# Altium footprint library HGH.PcbLib: 336 footprints (part 21 of 21)
Each footprint in its own frame and in the unit in brackets; x right, y up, seen from the top. Pads: shape width x height; smd on the part's side, far side on the other; paste and mask are expansions set on the pad; w line width, h text height; cw(c..) or ccw(c..) is an arc to the next point about the centre after c.
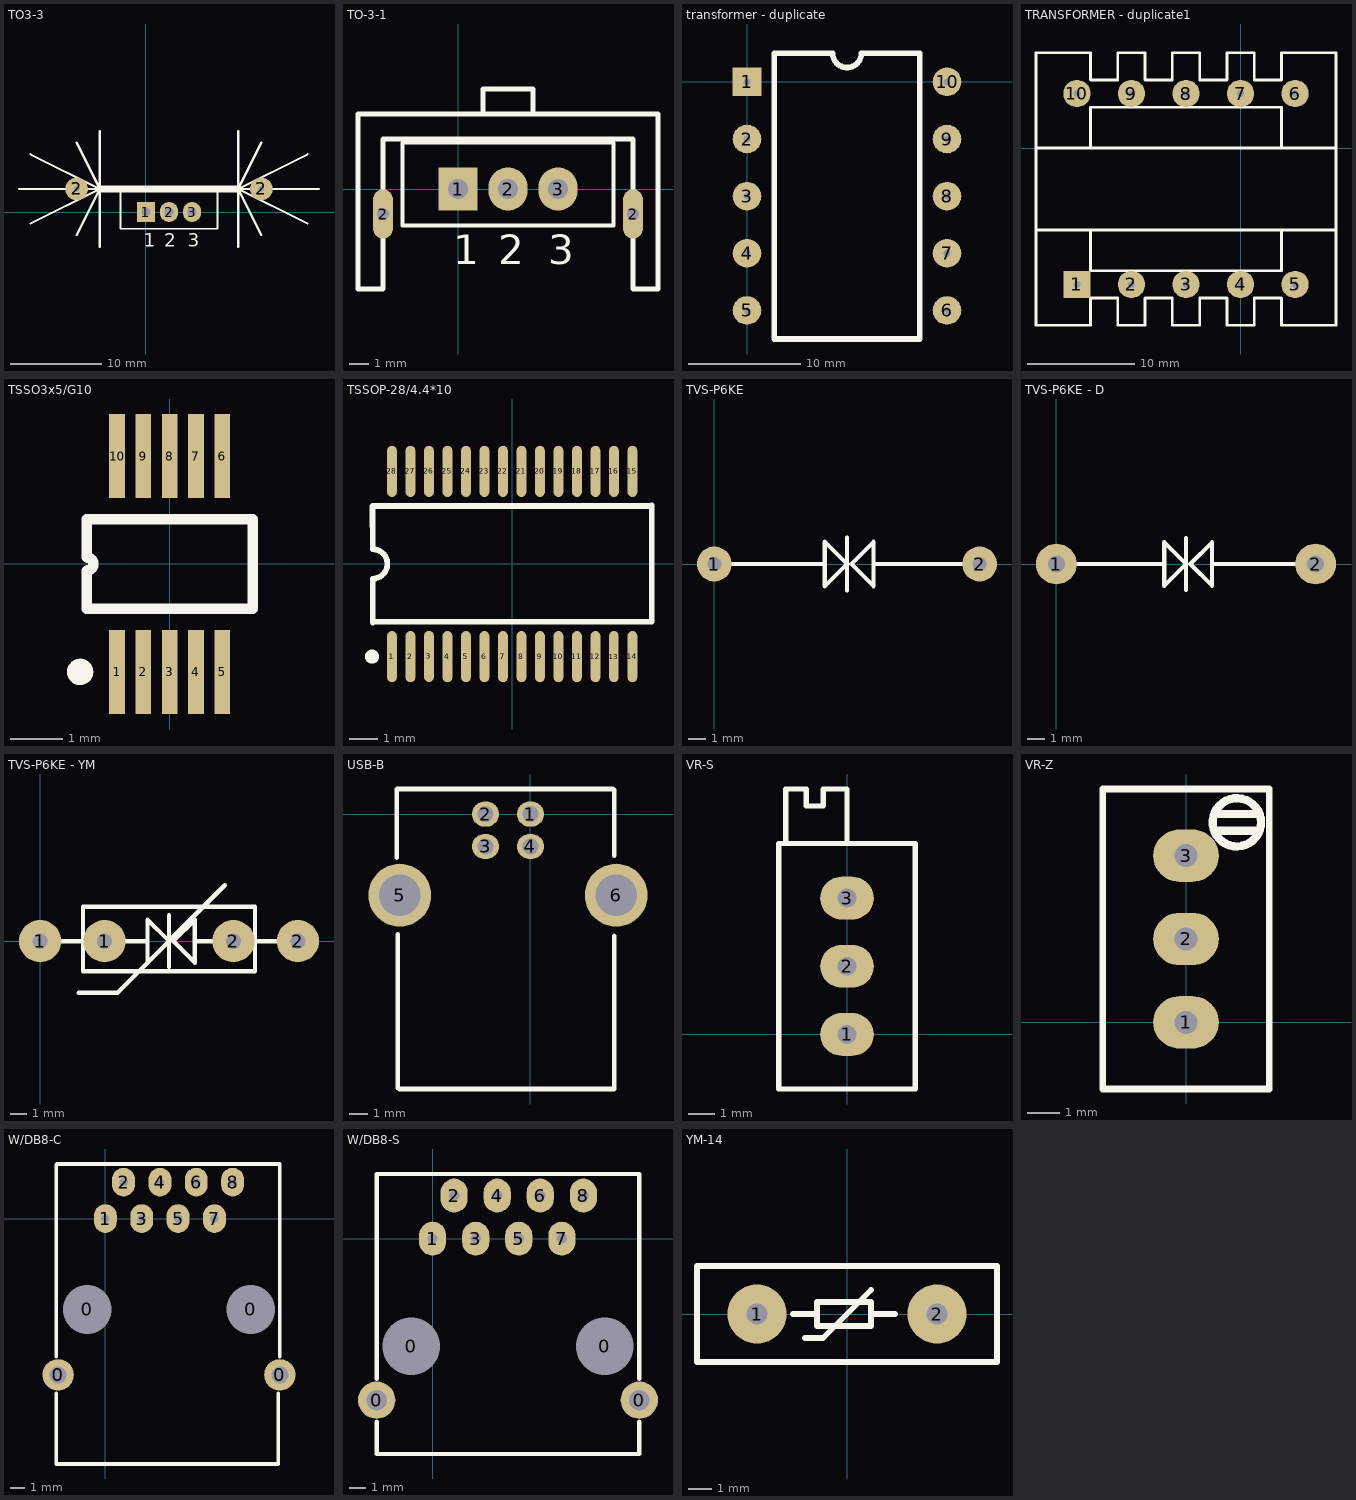
[diagram p20: the footprints below, top view; thin cyan lines are the x and y axes]

## TO3-3 [mm]
pads (5):
  rect 2x2.2 hole 1: 1(0,0)
  round 2.5 hole 0.6: 2(-7.62,2.54) 2(12.7,2.54)
  oval 2x2.2 hole 1: 2(2.54,0) 3(5.08,0)
Top Overlay:
  lines w0.2: -2.81,-1.85 7.89,-1.85 7.89,2.35 -2.81,2.35 -2.81,-1.85
  lines w0.254: -13.97,2.54 -5.08,2.54 ; -12.7,-1.27 -5.08,2.54 ; -12.7,6.35 -5.08,2.54 ; -7.62,-2.54 -5.08,2.54 ; -7.62,7.62 -5.08,2.54 ; -5.08,-3.81 -5.08,8.89 ; 10.16,-3.81 10.16,7.62 10.16,8.89 ; 12.7,-2.54 10.16,2.54 ; 12.7,7.62 10.16,2.54 ; 17.78,-1.27 10.16,2.54 ; 17.78,6.35 10.16,2.54 ; 19.05,2.54 10.16,2.54
  lines w0.8: -5.08,2.54 10.16,2.54
  text "2" at 2.04,-3.825 h1.5
  text "1" at -0.25,-3.825 h1.5
  text "3" at 4.58,-3.825 h1.5

## TO-3-1 [mm]
pads (5):
  rect 2x2.2 hole 1: 1(0,0)
  oval 1x2.5 hole 0.6: 2(-3.81,-1.27) 2(8.89,-1.27)
  oval 2x2.2 hole 1: 2(2.54,0) 3(5.08,0)
Top Overlay:
  lines w0.2: -2.81,-1.85 7.89,-1.85 7.89,2.35 -2.81,2.35 -2.81,-1.85
  lines w0.254: 1.27,3.81 1.27,5.08 3.81,5.08 3.81,3.81 ; -5.08,-5.08 -5.08,3.81 2.54,3.81 10.16,3.81 10.16,-5.08 8.89,-5.08 8.89,2.54 -3.81,2.54 -3.81,-5.08 -5.08,-5.08
  text "2" at 2.04,-3.825 h1.5
  text "1" at -0.25,-3.825 h1.5
  text "3" at 4.58,-3.825 h1.5

## transformer [mm]

## transformer - duplicate [mm]
pads (10):
  rect 2.54x2.54 hole 0.635: 1(0,0)
  round 2.54 hole 0.635: 2(0,-5.08) 3(0,-10.16) 4(0,-15.24) 5(0,-20.32) 6(17.78,-20.32) 7(17.78,-15.24) 8(17.78,-10.16) 9(17.78,-5.08) 10(17.78,0)
Top Overlay:
  lines w0.508: 2.413,-22.86 15.367,-22.86 15.367,2.54 10.16,2.54 cw(c8.89,2.54) 7.62,2.54 2.413,2.54 2.413,-22.86

## TRANSFORMER - duplicate1 [mm]
pads (10):
  rect 2.54x2.54 hole 0.635: 1(-15.24,-12.7)
  round 2.54 hole 0.635: 2(-10.16,-12.7) 3(-5.08,-12.7) 4(0,-12.7) 5(5.08,-12.7) 6(5.08,5.08) 7(0,5.08) 8(-5.08,5.08) 9(-10.16,5.08) 10(-15.24,5.08)
Top Overlay:
  lines w0.254: -19.05,-7.62 8.89,-7.62 ; -19.05,0 8.89,0 ; -13.97,-15.24 -13.97,-16.51 ; -13.97,-7.62 -13.97,-8.89 -13.97,-11.43 3.81,-11.43 3.81,-8.89 3.81,-7.62 ; -13.97,0 -13.97,1.27 -13.97,3.81 3.81,3.81 3.81,1.27 3.81,0 ; -13.97,-16.51 -17.78,-16.51 -19.05,-16.51 -19.05,8.89 -13.97,8.89 -13.97,6.35 -11.43,6.35 -11.43,8.89 -8.89,8.89 -8.89,6.35 -6.35,6.35 -6.35,8.89 -3.81,8.89 -3.81,6.35 -1.27,6.35 -1.27,8.89 1.27,8.89 1.27,6.35 3.81,6.35 3.81,8.89 8.89,8.89 8.89,-16.51 3.81,-16.51 3.81,-13.97 1.27,-13.97 1.27,-16.51 -1.27,-16.51 -1.27,-13.97 -3.81,-13.97 -3.81,-16.51 -6.35,-16.51 -6.35,-13.97 -8.89,-13.97 -8.89,-16.51 -11.43,-16.51 -11.43,-15.24 -11.43,-13.97 -13.97,-13.97 -13.97,-16.51

## TSSO3x5/G10 [mm]
pads (10):
  rect 0.3x1.6 smd: 1(-1,-2.05) 2(-0.5,-2.05) 3(0,-2.05) 4(0.5,-2.05) 5(1,-2.05) 6(1,2.05) 7(0.5,2.05) 8(0,2.05) 9(-0.5,2.05) 10(-1,2.05)
Top Overlay:
  circle w0.25: c-1.7,-2.05 r0.125
  lines w0.2: -1.575,-0.85 -1.575,-0.125 ccw(c-1.575,0) -1.575,0.125 -1.575,0.85 1.575,0.85 1.575,-0.85 -1.575,-0.85

## TSSOP-28/4.4*10 [mm]
pads (28):
  oval 0.35x1.8 smd: 1(-4.225,-3.258) 2(-3.575,-3.258) 3(-2.925,-3.251) 4(-2.275,-3.258) 5(-1.625,-3.258) 6(-0.975,-3.258) 7(-0.325,-3.258) 8(0.325,-3.258) 9(0.975,-3.258) 10(1.625,-3.258) 11(2.275,-3.258) 12(2.925,-3.258) 14(4.225,-3.258) 15(4.225,3.251) 16(3.575,3.251) 17(2.925,3.251) 18(2.275,3.251) 19(1.625,3.251) 20(0.975,3.251) 21(0.325,3.251) 22(-0.325,3.251) 23(-0.975,3.251) 24(-1.625,3.251) 25(-2.275,3.251) 26(-2.925,3.251) 27(-3.575,3.251) 28(-4.225,3.251)
  oval 0.33x1.8 smd: 13(3.575,-3.258)
Top Overlay:
  circle w0.25: c-4.925,-3.258 r0.125
  lines w0.2: -4.905,2.026 -4.902,0.533 ; -4.902,-2.057 -4.9,-0.517 ccw(c-4.9,0) -4.9,0.517 ; -4.902,2.032 4.898,2.032 ; -4.9,-2.033 4.9,-2.033 ; 4.902,-2.032 4.902,2.057

## TVS-P6KE [mm]
pads (2):
  round 2 hole 0.8: 1(0,0) 2(15.24,0)
Top Overlay:
  lines w0.254: 1.016,0 1.524,0 2.032,0 2.286,0 6.35,0 ; 7.62,-1.524 7.62,1.27 7.62,1.524 ; 9.144,0 13.716,0 14.224,0 ; 6.35,-1.27 6.35,1.27 7.62,0 6.35,-1.27 ; 7.874,0 9.144,1.27 9.144,-1.27 7.874,0

## TVS-P6KE - D [mm]
pads (2):
  round 2.4 hole 1: 1(0,0) 2(15.24,0)
Top Overlay:
  lines w0.254: 1.016,0 1.524,0 2.032,0 2.286,0 6.35,0 ; 7.62,-1.524 7.62,1.27 7.62,1.524 ; 9.144,0 13.716,0 14.224,0 ; 6.35,-1.27 7.62,0 6.35,1.27 6.35,-1.27 ; 7.874,0 9.144,-1.27 9.144,1.27 7.874,0

## TVS-P6KE - YM [mm]
pads (4):
  round 2.5 hole 0.9: 1(0,0) 1(3.81,0) 2(11.43,0) 2(15.24,0)
Top Overlay:
  lines w0.254: 1.016,0 1.524,0 2.032,0 2.286,0 6.35,0 ; 2.286,-3.048 4.572,-3.048 10.922,3.302 ; 7.62,-1.524 7.62,1.27 7.62,1.524 ; 9.144,0 13.716,0 14.224,0 ; 2.54,-1.778 2.54,2.032 12.7,2.032 12.7,-1.778 2.54,-1.778 ; 6.35,-1.27 7.62,0 6.35,1.27 6.35,-1.27 ; 7.874,0 9.144,-1.27 9.144,1.27 7.874,0

## USB-B [mm]
pads (6):
  oval 1.5x1.4 hole 0.9: 1(0,0) 2(-2.5,0) 3(-2.5,-1.8) 4(0,-1.8)
  round 3.5 hole 2.3: 5(-7.27,-4.51) 6(4.77,-4.51)
Top Overlay:
  lines w0.254: -7.442,-2.413 -7.442,1.397 ; -7.391,-15.24 -7.391,-6.68 ; -7.391,1.397 4.597,1.397 ; -7.29,-15.291 4.648,-15.291 4.648,-6.782 ; 4.648,-2.311 4.648,1.346

## VR-S [mm]
pads (3):
  oval 2x1.6 hole 0.7: 1(0,0) 2(0,2.54) 3(0,5.08)
Top Overlay:
  lines w0.2: -2.286,7.112 -2.286,9.144 -1.524,9.144 -1.524,8.509 -0.889,8.509 -0.889,9.144 0,9.144 0,7.112 ; -2.54,-2.032 2.54,-2.032 2.54,7.112 -2.54,7.112 -2.54,-2.032

## VR-Z [mm]
pads (3):
  oval 2x1.6 hole 0.7: 1(0,0) 2(0,2.54) 3(0,5.08)
Top Overlay:
  circle w0.254: c1.551,6.096 r0.735
  lines w0.2: -2.54,-2.032 -2.54,7.112 2.54,7.112 2.54,-2.032 -2.54,-2.032
  lines w0.254: 1.016,5.842 2.159,5.842 ; 1.016,6.35 2.159,6.35

## W/DB8-C [mm]
pads (12):
  round 2.2 hole 1.2: 0(-3.302,-10.922) 0(12.192,-10.922)
  round 3 hole 3.4: 0(-1.27,-6.35) 0(10.16,-6.35)
  oval 1.6x2 hole 0.6: 1(0,0) 2(1.27,2.54) 3(2.54,0) 4(3.81,2.54) 5(5.08,0) 6(6.35,2.54) 7(7.62,0) 8(8.89,2.54)
Top Overlay:
  lines w0.254: -3.429,-12.192 -3.429,-17.145 12.065,-17.145 12.065,-12.192 ; -3.429,-9.652 -3.429,3.78 ; -3.38,3.81 12.192,3.81 12.192,-9.652

## W/DB8-S [mm]
pads (12):
  round 2.2 hole 1.2: 0(-3.302,-9.525) 0(12.192,-9.525)
  round 3 hole 3.4: 0(-1.27,-6.35) 0(10.16,-6.35)
  oval 1.6x2 hole 0.6: 1(0,0) 2(1.27,2.54) 3(2.54,0) 4(3.81,2.54) 5(5.08,0) 6(6.35,2.54) 7(7.62,0) 8(8.89,2.54)
Top Overlay:
  lines w0.254: -3.302,-10.795 -3.302,-12.7 12.192,-12.7 12.192,-10.795 ; -3.302,-8.255 -3.302,3.759 ; -3.302,3.81 12.192,3.81 12.192,-8.255

## YM-14 [mm]
pads (2):
  round 2.5 hole 0.9: 1(-3.81,0) 2(3.81,0)
Top Overlay:
  lines w0.254: -2.286,0 -1.27,0 ; -1.778,-1.016 -1.016,-1.016 1.016,1.016 ; 1.016,0 2.032,0 ; -6.35,-2.032 -6.35,2.032 6.35,2.032 6.35,-2.032 -6.35,-2.032 ; -1.27,-0.508 -1.27,0.508 1.016,0.508 1.016,-0.508 -1.27,-0.508